# Altium footprint library Stove_Light.PcbLib: 127 footprints (part 1 of 8)
Each footprint in its own frame and in the unit in brackets; x right, y up, seen from the top. Pads: shape width x height; smd on the part's side, far side on the other; paste and mask are expansions set on the pad; w line width, h text height; cw(c..) or ccw(c..) is an arc to the next point about the centre after c.
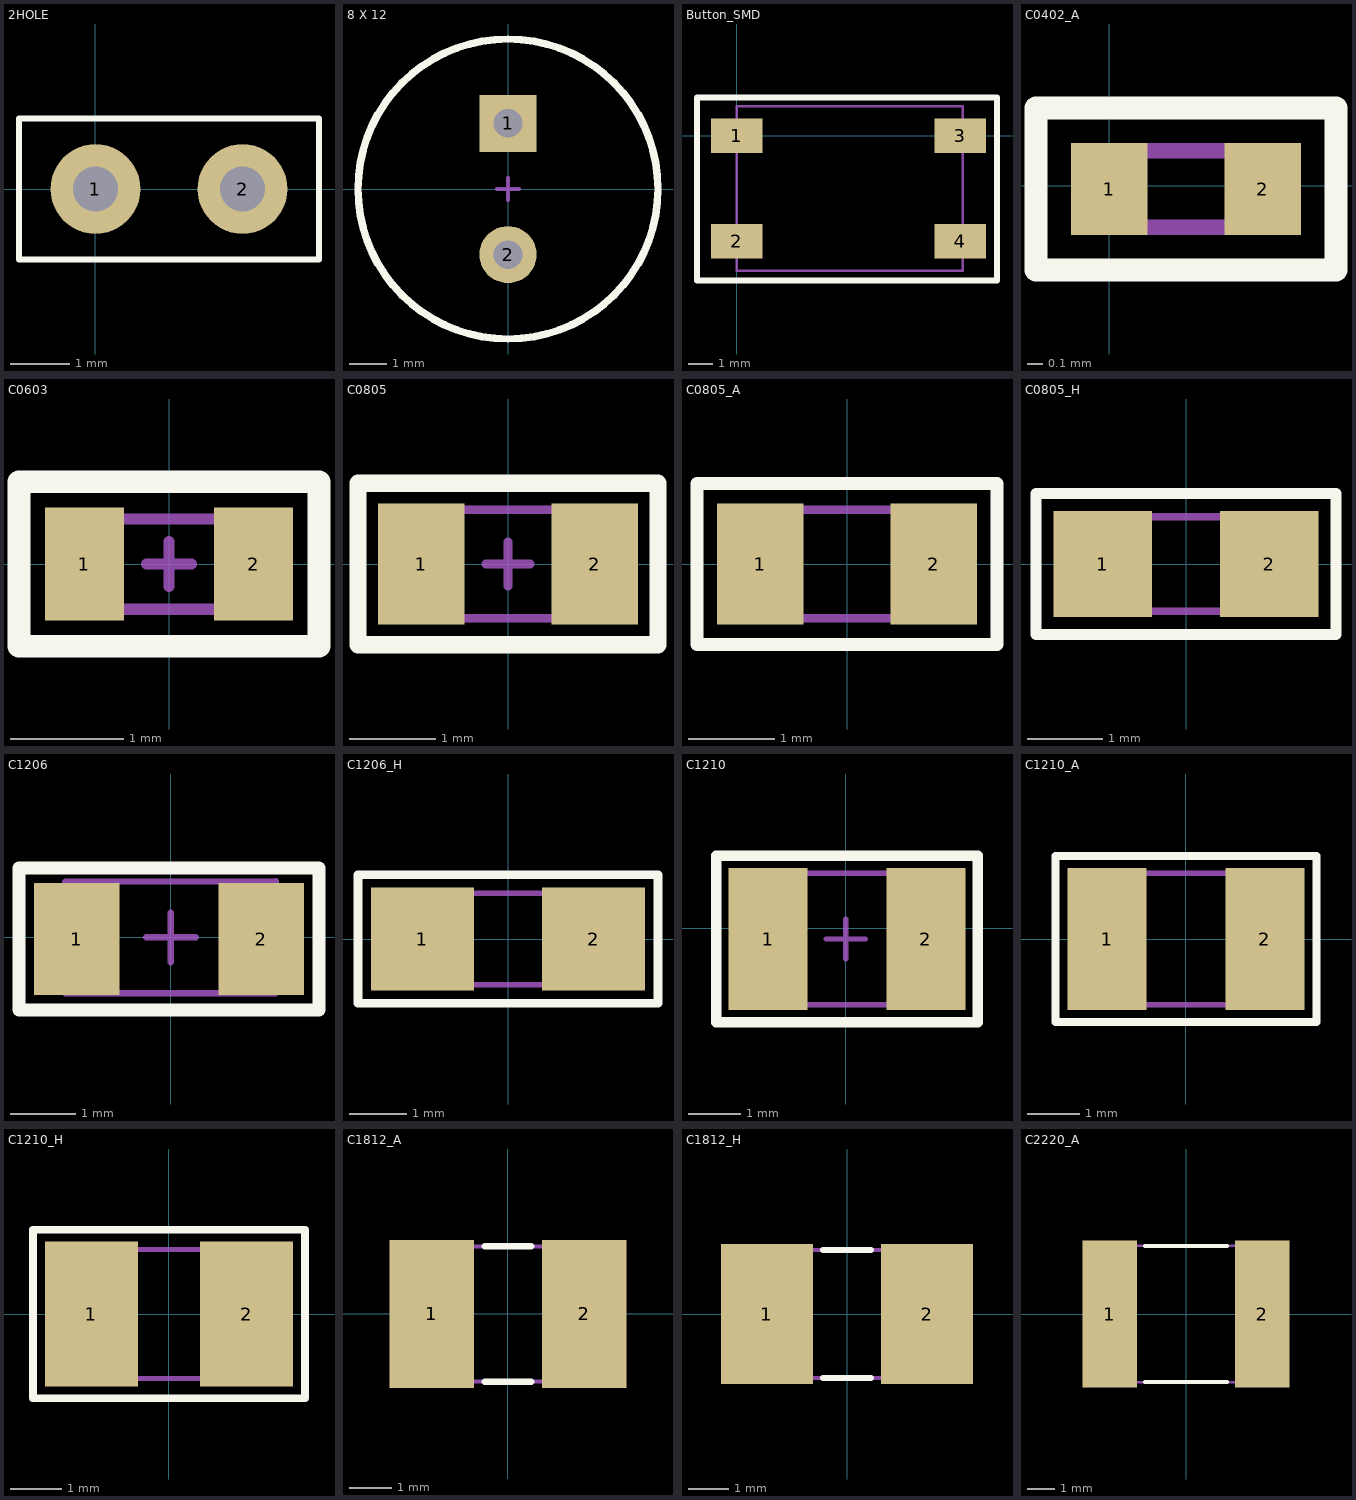
[diagram p0: the footprints below, top view; thin cyan lines are the x and y axes]

## 2HOLE [mil]
pads (2):
  round 60 hole 30: 1(0,0) 2(98.43,0)
Top Overlay:
  lines w3.94: -51.18,-47.24 -51.18,-39.37 -51.18,47.24 149.61,47.24 149.61,-47.24 -51.18,-47.24

## 8 X 12 [mil]
pads (2):
  rect 60x60 hole 30: 1(0,68.9)
  round 60 hole 30: 2(0,-68.9)
Top Overlay:
  circle w7.87: c0,0 r157.56
Mechanical 9:
  text ".Comment" at -39.37,-29.53 h31.5
  text ".Designator" at -39.37,9.84 h39.37
Mechanical 11:
  circle w3.94: c0,0 r157.56
Mechanical 15:
  circle w1.97: c0,0 r157.56
  lines w3.94: -11.81,0 11.81,0 ; 0,-11.81 0,11.81
3D body: height 472.44, standoff 0, extent -157.24,-157.41 157.49,157.43

## Button_SMD [mm] "Кнопка"
pads (4):
  rect 2.1x1.4 smd: 1(0,0) 2(0,-4.3) 3(9.1,0) 4(9.1,-4.3)
Top Overlay:
  lines w0.254: -1.625,1.55 -1.625,-5.9 1.425,-5.9 7.525,-5.9 10.6,-5.9 10.6,1.525 ; -1.6,1.55 1.6,1.55 7.4,1.55 8.463,1.55 9.687,1.55 10.6,1.55
Mechanical 7:
  lines w0.1: 0,-5.5 9.2,-5.5 9.2,1.2 0,1.2 0,-5.5
3D body: height 4.4, standoff 0, extent 0.1,-5.45 9.1,1.15

## C0402_A [mm]
pads (2):
  rect 0.5x0.6 smd: 1(0,-0.02) 2(1,-0.02)
Top Overlay:
  lines w0.15: -0.48,-0.55 -0.48,0.51 1.48,0.51 1.48,-0.55 -0.48,-0.55
Mechanical 7:
  lines w0.1: 0,-0.27 1,-0.27 1,0.23 0,0.23 0,-0.27
Mechanical 10:
  text ".Designator" at -0.08,0.73 h0.8
  text ".Comment" at -0.08,-1.13 h0.6
3D body: height 0.35, standoff 0, extent 0,-0.27 1,0.23

## C0603 [mm]
height 0.9
pads (2):
  rect 0.7x1 smd: 1(-0.75,0) 2(0.75,0)
Top Overlay:
  lines w0.2: -1.33,-0.73 -1.33,0.73 1.33,0.73 1.33,-0.73 -1.33,-0.73
Mechanical 9:
  text ".Comment" at -0.75,-0.5 h0.8
  text ".Designator" at -0.75,0 h1
Mechanical 11:
  lines w0.1: -0.8,-0.4 0.8,-0.4 0.8,0.4 -0.8,0.4 -0.8,-0.4
Mechanical 15:
  lines w0.05: 0,0.725 -1.325,0.725 ; -1.325,0.725 -1.325,-0.725 1.325,-0.725 1.325,0.725 -1.325,0.725
  lines w0.1: -0.2,0 0.2,0 ; 0,-0.2 0,0.2
3D body "CAPC0603.STEP": height 0.9, standoff 0, extent -0.8,-0.4 0.8,0.4

## C0805 [mm]
height 1.3
pads (2):
  rect 1x1.4 smd: 1(-1,0) 2(1,0)
Top Overlay:
  lines w0.2: -1.73,-0.93 1.73,-0.93 1.73,0.93 -1.73,0.93 -1.73,-0.93
Mechanical 9:
  text ".Designator" at -0.75,0.25 h1
  text ".Comment" at -0.75,-0.5 h0.8
Mechanical 11:
  lines w0.1: -1,-0.625 -1,0.625 1,0.625 1,-0.625 -1,-0.625
Mechanical 15:
  lines w0.05: -1.73,-0.93 -1.73,0.93 1.73,0.93 1.73,-0.93 -1.73,-0.93
  lines w0.1: -0.254,0 0.254,0 ; 0,-0.254 0,0.254
3D body "CAP0805.STEP": height 0.78, standoff 0, extent -1,-0.625 1,0.625

## C0805_A [mm]
height 1.3
pads (2):
  rect 1x1.4 smd: 1(-1,0) 2(1,0)
Top Overlay:
  lines w0.15: -1.73,-0.93 1.73,-0.93 1.73,0.93 -1.73,0.93 -1.73,-0.93
Mechanical 7:
  lines w0.1: -1,-0.625 -1,0.625 1,0.625 1,-0.625 -1,-0.625
Mechanical 10:
  text ".Comment" at -0.59,-1.6 h0.6
  text ".Designator" at -0.46,1.29 h0.8
3D body: height 1.3, standoff 0, extent -1,-0.625 1,0.625

## C0805_H [mm]
height 1.3
pads (2):
  rect 1.3x1.4 smd: 1(-1.1,0) 2(1.1,0)
Top Overlay:
  lines w0.15: -1.98,-0.93 -1.98,0.93 1.98,0.93 1.98,-0.93 -1.98,-0.93
Mechanical 7:
  lines w0.1: -1,-0.625 1,-0.625 1,0.625 -1,0.625 -1,-0.625
Mechanical 10:
  text ".Designator" at -0.47,1.37 h0.8
  text ".Comment" at -0.45,-1.62 h0.6
3D body: height 1.3, standoff 0, extent -1,-0.625 1,0.625

## C1206 [mm]
height 1.5
pads (2):
  rect 1.3x1.7 smd: 1(-1.428,-0.024) 2(1.372,-0.024)
Top Overlay:
  lines w0.2: -2.308,-1.104 -2.308,1.056 2.252,1.056 2.252,-1.104 -2.308,-1.104
Mechanical 9:
  text ".Designator" at -1,0.25 h1
  text ".Comment" at -1,-0.5 h0.8
Mechanical 11:
  lines w0.1: -1.603,-0.849 1.597,-0.849 1.597,0.851 -1.603,0.849 -1.603,-0.849
Mechanical 15:
  lines w0.05: 0,1.05 -2.3,1.05 ; -2.3,1.05 2.25,1.05 2.25,-1.1 -2.3,-1.1 -2.3,1.05
  lines w0.1: -0.375,0 0.375,0 ; 0,-0.375 0,0.375
3D body "SMD_1206.step": height 1.75, standoff 0.25, extent -1.603,-0.849 1.597,0.851

## C1206_H [mm]
height 1.5
pads (2):
  rect 1.8x1.8 smd: 1(-1.5,0) 2(1.5,0)
Top Overlay:
  lines w0.15: -2.63,-1.13 -2.63,1.13 2.63,1.13 2.63,-1.13 -2.63,-1.13
Mechanical 7:
  lines w0.1: -1.6,-0.8 1.6,-0.8 1.6,0.8 -1.6,0.8 -1.6,-0.8
Mechanical 10:
  text ".Designator" at -0.55,1.31 h0.8
  text ".Comment" at -0.57,-1.8 h0.6
3D body: height 1.5, standoff 0, extent -1.6,-0.8 1.6,0.8

## C1210 [mm]
height 2.5
pads (2):
  rect 1.5x2.7 smd: 1(-1.475,-0.2) 2(1.525,-0.2)
Top Overlay:
  lines w0.2: -2.455,-1.78 -2.455,1.38 2.505,1.38 2.505,-1.78 -2.455,-1.78
Mechanical 9:
  text ".Comment" at -1.25,-0.75 h0.8
  text ".Designator" at -1.25,0 h1
Mechanical 11:
  lines w0.1: -1.575,-1.45 1.625,-1.45 1.625,1.05 -1.575,1.05 -1.575,-1.45
Mechanical 15:
  lines w0.05: -2.455,-1.78 2.505,-1.78 2.505,1.38 -2.455,1.38 -2.455,-1.78
  lines w0.1: -0.375,-0.2 0.375,-0.2 ; 0,-0.575 0,0.175
3D body "SMD_1210.step": height 1.65, standoff -0.05, extent -1.5,-1.425 1.7,1.075

## C1210_A [mm]
height 2.5
pads (2):
  rect 1.5x2.7 smd: 1(-1.5,0) 2(1.5,0)
Top Overlay:
  lines w0.15: -2.48,-1.58 2.48,-1.58 2.48,1.58 -2.48,1.58 -2.48,-1.58
Mechanical 7:
  lines w0.1: -1.6,-1.25 -1.6,1.25 1.6,1.25 1.6,-1.25 -1.6,-1.25
Mechanical 10:
  text ".Comment" at -0.74,-2.23 h0.6
  text ".Designator" at -0.71,1.89 h0.8
3D body: height 2.5, standoff 0, extent -1.6,-1.25 1.6,1.25

## C1210_H [mm]
height 2.5
pads (2):
  rect 1.8x2.8 smd: 1(-1.5,0) 2(1.5,0)
Top Overlay:
  lines w0.15: -2.63,-1.63 2.63,-1.63 2.63,1.63 -2.63,1.63 -2.63,-1.63
Mechanical 7:
  lines w0.1: -1.6,-1.25 -1.6,1.25 1.6,1.25 1.6,-1.25 -1.6,-1.25
Mechanical 10:
  text ".Comment" at -0.69,-2.29 h0.6
  text ".Designator" at -0.71,1.89 h0.8
3D body: height 2.5, standoff 0, extent -1.6,-1.25 1.6,1.25

## C1812_A [mm]
height 1.7
pads (2):
  rect 2x3.5 smd: 1(-1.8,0) 2(1.8,0)
Top Overlay:
  lines w0.15: -0.55,-1.6 0.55,-1.6 ; -0.55,1.6 0.55,1.6
Mechanical 7:
  lines w0.1: -2.25,-1.6 -2.25,1.6 2.25,1.6 2.25,-1.6 -2.25,-1.6
Mechanical 10:
  text ".Designator" at -0.62,2.14 h0.8
  text ".Comment" at -0.52,-2.51 h0.6
3D body: height 1.7, standoff 0, extent -2.25,-1.6 2.25,1.6

## C1812_H [mm]
height 1.7
pads (2):
  rect 2.3x3.5 smd: 1(-2,0) 2(2,0)
Top Overlay:
  lines w0.15: -0.6,-1.6 0.6,-1.6 ; -0.6,1.6 0.6,1.6
Mechanical 7:
  lines w0.1: -2.25,-1.6 2.25,-1.6 2.25,1.6 -2.25,1.6 -2.25,-1.6
Mechanical 10:
  text ".Designator" at -0.62,2.14 h0.8
  text ".Comment" at -0.63,-2.52 h0.6
3D body: height 1.7, standoff 0, extent -2.25,-1.6 2.25,1.6

## C2220_A [mm]
height 1.8
pads (2):
  rect 2x5.4 smd: 1(-2.8,0) 2(2.8,0)
Top Overlay:
  lines w0.15: -1.5,-2.5 1.5,-2.5 ; -1.5,2.5 1.5,2.5
Mechanical 7:
  lines w0.1: -2.8,-2.5 -2.8,2.5 2.8,2.5 2.8,-2.5 -2.8,-2.5
Mechanical 10:
  text ".Designator" at -0.56,3.04 h0.8
  text ".Comment" at -0.5,-3.49 h0.6
3D body: height 1.8, standoff 0, extent -2.8,-2.5 2.8,2.5